# Altium schematic symbol library SCH - POWER - LINEAR VREG - TI TPS7A3901DSC.SchLib: 1 symbol
Pins are listed as number, name and electrical type; pins without a type are passive.

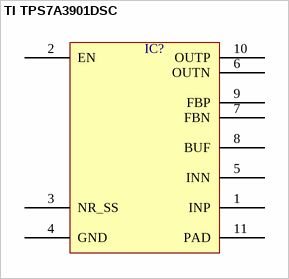
[diagram p0: symbol TI TPS7A3901DSC]

## TI TPS7A3901DSC
designator IC?  (value not drawn)
pins: 1 INP, 2 EN, 3 NR_SS, 4 GND, 5 INN, 6 OUTN, 7 FBN, 8 BUF, 9 FBP, 10 OUTP, 11 PAD